# Altium schematic symbol library Tranceivers.SchLib: 8 symbols
Pins are listed as number, name and electrical type; pins without a type are passive.

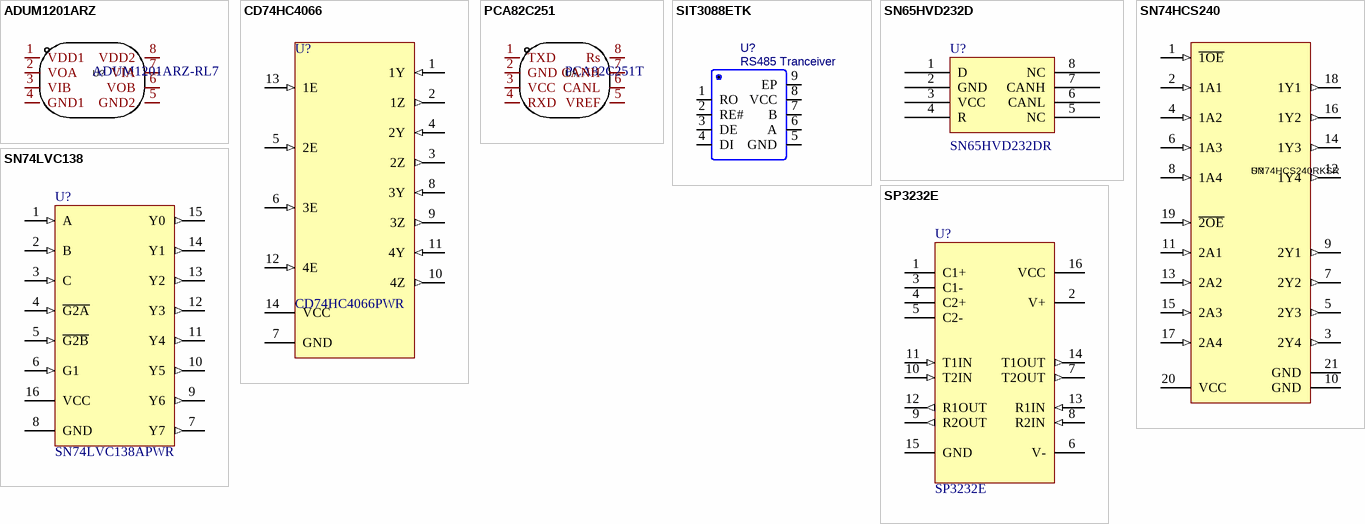
[diagram p0: symbols ADUM1201ARZ to SP3232E]

## ADUM1201ARZ
designator U?, comment ADUM1201ARZ-RL7
Digital Isolator; Manufacturer: ADI(亚德诺)/LINEAR(凌特); Add into BOM: yes; Isolation Technology: 磁隔离; Number of Channels: 2; Forward Channel: 1; Voltage Isolation or Not: 带电压隔离; Isolation voltage: 2500Vrms; Data Rate: 1Mbps; Supply Voltage: 2.7V~5.5V; Name: ADUM1201ARZ-RL7; Symbol: ADUM1201ARZ-RL7; Device: ADUM1201ARZ-RL7; LCSC Part Name: ADUM1201ARZ-RL7; Supplier Part: C9669; Manufacturer Part: ADUM1201ARZ-RL7; Supplier Footprint: SOIC-8; JLCPCB Part Class: Basic Part; Datasheet: https://atta.szlcsc.com/upload/public/pdf/source/20121103/1457706544769.pdf; Supplier: LCSC; Convert to PCB: yes; Applications: 通用; Reverse channel: 1; Operating Temperature: -55℃~+100℃
footprint SOP-8
pins: 1 VDD1, 2 VOA, 3 VIB, 4 GND1, 5 GND2, 6 VOB, 7 VIA, 8 VDD2

## CD74HC4066
designator U?, comment CD74HC4066PWR
CMOS Logic Quad Bilateral Switch.
footprint TSSOP-14
pins: 1 1Y (in), 2 1Z (out), 3 2Z (out), 4 2Y (in), 5 2E (in), 6 3E (in), 7 GND (power), 8 3Y (in), 9 3Z (out), 10 4Z (out), 11 4Y (in), 12 4E (in), 13 1E (in), 14 VCC (power)

## PCA82C251
designator U?, comment PCA82C251T
CAN transceiver; Manufacturer: Tokmas(托克马斯); Add into BOM: yes; Name: PCA82C251T; Symbol: PCA82C251T; Device: PCA82C251T; LCSC Part Name: PCA82C251T; Supplier Part: C7432796; Manufacturer Part: PCA82C251T; Supplier Footprint: SOP-8; Datasheet: https://atta.szlcsc.com/upload/public/pdf/source/20230625/276DDB82A8AA19CE4785C79DB2491288.pdf; Supplier: LCSC; Convert to PCB: yes; link: https://atta.szlcsc.com/upload/public/pdf/source/20230621/1484E0AD24B83654AF18D5B601DFC963.pdf
footprint SOP-8
pins: 1 TXD, 2 GND, 3 VCC, 4 RXD, 5 VREF, 6 CANL, 7 CANH, 8 Rs

## SIT3088ETK
designator U?, comment RS485 Tranceiver
3.0V-5.5V RS485 Wide input Voltage , Half Duplex ,  MAX +-15V Bus Voltage , Maximum 14Mbps Baudrates in noisy environment; BOM_Manufacturer: SIT(芯力特); BOM_Manufacturer Part: SIT3088ETK; Contributor: LCSC; BOM_Supplier: LCSC; BOM_Supplier Part: C601076; BOM_JLCPCB Part Class: Extended Part; spicePre: U; spiceSymbolName: SIT3088ETK; ComponentLink1Description: Vendor Link; ComponentLink1URL: https://item.szlcsc.com/630346.html
footprint DFN-8
pins: 1 RO, 2 RE#, 3 DE, 4 DI, 5 GND, 6 A, 7 B, 8 VCC, 9 EP

## SN65HVD232D
designator U?, comment Manufacturer Part Number: SN65HVD232DR  (hidden comment: CAN Tranceiver)
3.3-V CAN Bus Transceivers; Manufacturer: Texas Instruments; Number of Drivers/Receivers: 1/1; Duplex: Half; Data Rate: 1Mbps; Voltage - Supply: 3 V ~ 3.6 V; Supplier 1: Digi-Key; Supplier Part Number 1: 296-26344-2-ND; RoHS: RoHS Compliant; Category: Integrated Circuits (ICs); Stock: 5000; Pricing 1: 2500=0.84375 (USD); Packaging: Tape & Reel (TR); Part Status: Active; Type: Transceiver; Protocol: CAN; Operating Temperature: -40°C ~ 85°C; Mounting Type: Surface Mount; Package / Case: 8-SOIC (0.154", 3.90mm Width); Supplier Device Package: 8-SOIC; ComponentLink1URL: http://www.ti.com/lit/ds/symlink/sn65hvd230.pdf; ComponentLink1Description: Datasheet; Supplier 2: Digi-Key; Supplier Part Number 2: 296-26344-1-ND; Pricing 2: 1=2.05, 10=1.842, 100=1.4809, 500=1.21668, 1000=1.00811 (USD); ComponentLink2Description: Vendor Link; ComponentLink2URL: https://item.szlcsc.com/31287.html
footprint SOIC-8
pins: 1 D, 2 GND, 3 VCC, 4 R, 5 NC, 6 CANL, 7 CANH, 8 NC

## SN74HCS240
designator U?, comment SN74HCS240RKSR
Octal Inverting Line drivers.; Manufacturer: TI(德州仪器); Add into BOM: yes; Input type: 施密特触发器; output type: 三态; Supply Voltage: 2V~6V; Number of Elements: 2; Number of Bits per Element: 4; Sink Current: 7.8mA; Logic Family: 74HCS; Symbol: SN74HCS240RKSR; Device: SN74HCS240RKSR; LCSC Part Name: SN74HCS240RKSR; Supplier Part: C3754948; Manufacturer Part: SN74HCS240RKSR; Supplier Footprint: VQFN-20(2.5x4.5); JLCPCB Part Class: Extended Part; Datasheet: https://www.ti.com/cn/lit/gpn/sn74hcs240; Supplier: LCSC; Convert to PCB: yes; Source Current: 7.8mA; Operating Temperature: -40℃~+125℃
footprint DHVQFN-20
pins: 1 ~{1OE} (in), 2 1A1 (in), 3 2Y4 (out), 4 1A2 (in), 5 2Y3 (out), 6 1A3 (in), 7 2Y2 (out), 8 1A4 (in), 9 2Y1 (out), 10 GND (power), 11 2A1 (in), 12 1Y4 (out), 13 2A2 (in), 14 1Y3 (out), 15 2A3 (in), 16 1Y2 (out), 17 2A4 (in), 18 1Y1 (out), 19 ~{2OE} (in), 20 VCC (power), 21 GND (power)

## SN74LVC138
designator U?, comment SN74LVC138APWR
CMOS 3-8 Line Decoder.
footprint TSSOP-16
pins: 1 A (in), 2 B (in), 3 C (in), 4 ~{G2A} (in), 5 ~{G2B} (in), 6 G1 (in), 7 Y7 (out), 8 GND (power), 9 Y6 (out), 10 Y5 (out), 11 Y4 (out), 12 Y3 (out), 13 Y2 (out), 14 Y1 (out), 15 Y0 (out), 16 VCC (power)

## SP3232E
designator U?
RS232 Transceiver.
footprint SOIC-16
pins: 1 C1+, 2 V+, 3 C1-, 4 C2+, 5 C2-, 6 V-, 7 T2OUT (out), 8 R2IN (in), 9 R2OUT (out), 10 T2IN (in), 11 T1IN (in), 12 R1OUT (out), 13 R1IN (in), 14 T1OUT (out), 15 GND, 16 VCC